# Altium footprint library PcbLib2.PcbLib: 18 footprints (part 1 of 2)
Each footprint in its own frame and in the unit in brackets; x right, y up, seen from the top. Pads: shape width x height; smd on the part's side, far side on the other; paste and mask are expansions set on the pad; w line width, h text height; cw(c..) or ccw(c..) is an arc to the next point about the centre after c.
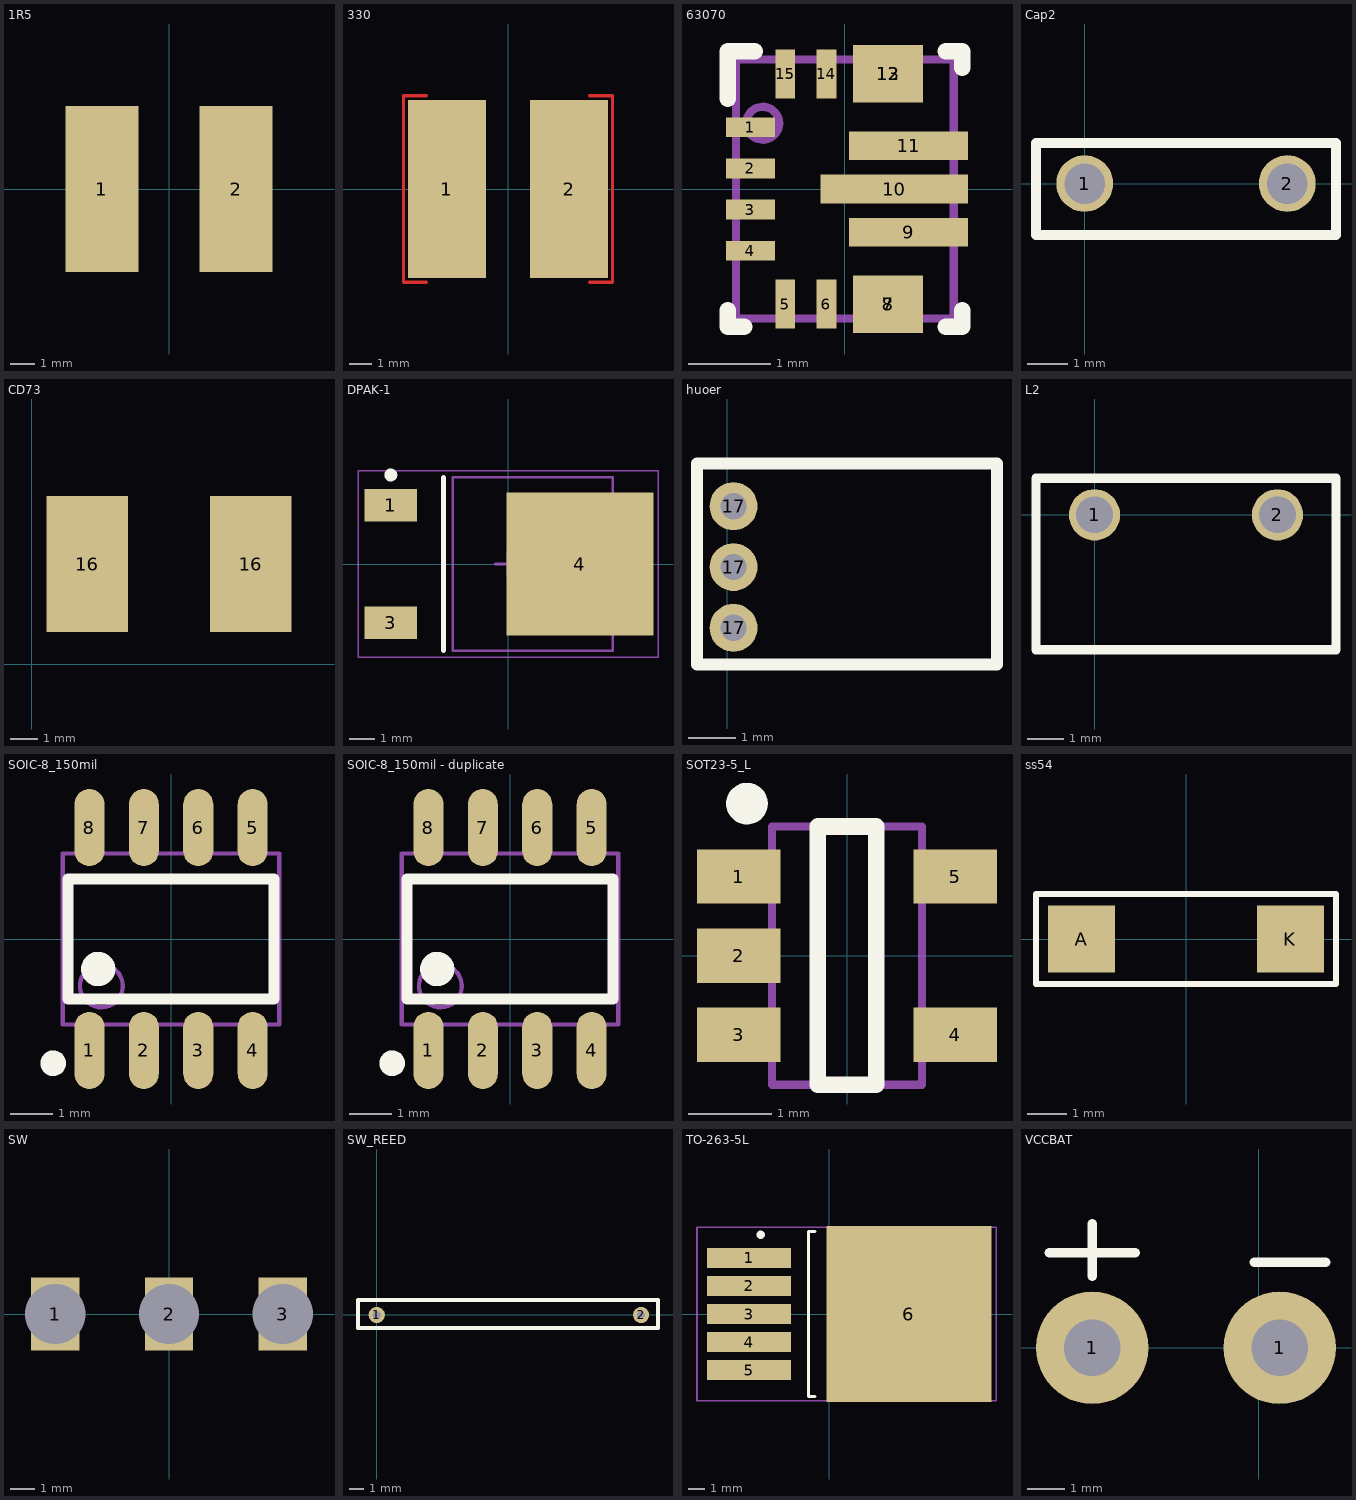
[diagram p0: the footprints below, top view; thin cyan lines are the x and y axes]

## 1R5 [mm]
height 3.5
pads (2):
  rect 3x6.8 smd: 1(-2.75,0) 2(2.75,0)

## 330 [mm]
pads (2):
  rect 3.5x8 smd: 1(-2.75,0) 2(2.75,0)
Top Layer:
  lines w0.15: -3.683,-4.191 -4.699,-4.191 -4.699,4.191 -3.683,4.191 ; 3.683,-4.191 4.699,-4.191 4.699,4.191 3.683,4.191

## 63070 [mm]
pads (15):
  rect 0.6x0.24 smd paste+0 mask+0.051: 1(-1.15,0.75) 2(-1.15,0.25) 3(-1.15,-0.25) 4(-1.15,-0.75)
  rect 0.24x0.6 smd paste+0 mask+0.051: 5(-0.725,-1.4) 6(-0.225,-1.4) 14(-0.225,1.4) 15(-0.725,1.4)
  rect 0.85x0.7 smd paste-0.35 mask-0.356: 7(0.525,-1.4) 8(0.525,-1.4) 12(0.525,1.4) 13(0.525,1.4)
  rect 1.45x0.35 smd paste-0.712 mask-0.051: 9(0.775,-0.525) 11(0.775,0.525)
  rect 1.8x0.35 smd paste-0.887 mask-0.051: 10(0.6,0)
Top Overlay:
  lines w0.2: -1.425,-1.475 -1.425,-1.675 -1.225,-1.675 ; -1.425,1.1 -1.425,1.675 -1.1,1.675 ; 1.225,-1.675 1.425,-1.675 1.425,-1.475 ; 1.225,1.675 1.425,1.675 1.425,1.475
Top Paste:
  drawing of 12 lines, arcs and shapes, not listed
Top Solder:
  drawing of 6 lines, arcs and shapes, not listed
Mechanical 13:
  circle w0.1: c-1,0.8 r0.2
  lines w0.1: -1.325,-1.575 -1.325,1.575 1.325,1.575 1.325,-1.575 -1.325,-1.575
3D body: height 0.25, standoff 0, extent 0,0 0.254,0.254

## Cap2 [mm]
pads (2):
  round 1.4 hole 1: 1(0,0) 2(5,0)
Top Overlay:
  lines w0.254: -1.2,-1.27 6.2,-1.27 6.2,1 -1.2,1 -1.2,-1.27

## CD73 [mm]
pads (2):
  rect 3x5 smd: 16(2.032,3.683) 16(8.032,3.683)

## DPAK-1 [mm]
pads (3):
  rect 2.05x1.25 smd: 1(-4.55,2.28) 3(-4.55,-2.28)
  rect 5.7x5.55 smd: 4(2.794,0)
Top Overlay:
  circle w0.25: c-4.55,3.455 r0.125
  lines w0.2: -2.5,-3.35 -2.5,3.35
Mechanical 13:
  lines w0.1: -2.15,-3.375 4.07,-3.375 4.07,3.375 -2.15,3.375 -2.15,-3.375
Mechanical 15:
  lines w0.05: -5.825,-3.625 5.825,-3.625 5.825,3.625 -5.825,3.625 -5.825,-3.625
  lines w0.1: -0.5,0 0.5,0 ; 0,-0.5 0,0.5
3D body: height 2.38, standoff 0, extent -2.15,-3.375 4.07,3.375

## huoer [mm]
pads (3):
  round 1 hole 0.55: 17(0.127,2.921) 17(0.127,4.191) 17(0.127,5.461)
Top Overlay:
  lines w0.254: -0.635,2.159 5.627,2.159 5.627,6.35 -0.635,6.35 -0.635,2.159

## L2 [mm]
pads (2):
  round 1.4 hole 1: 1(0,0) 2(5,0)
Top Overlay:
  lines w0.254: -1.6,-3.683 6.6,-3.683 6.6,1 -1.6,1 -1.6,-3.683

## SOIC-8_150mil [mm]
pads (8):
  oval 0.7x1.8 smd: 1(-1.905,-2.6) 2(-0.635,-2.6) 3(0.635,-2.6) 4(1.905,-2.6) 5(1.905,2.6) 6(0.635,2.6) 7(-0.635,2.6) 8(-1.905,2.6)
Top Overlay:
  circle w0.4: c-1.7,-0.7 r0.2
  circle w0.3: c-2.75,-2.9 r0.15
  lines w0.254: -2.4,-1.4 -2.4,1.4 2.4,1.4 2.4,-1.4 -2.4,-1.4
Mechanical 13:
  circle w0.1: c-1.625,-1.095 r0.5
  lines w0.1: -2.525,-1.995 -2.525,1.995 2.525,1.995 2.525,-1.995 -2.525,-1.995

## SOIC-8_150mil - duplicate [mm]
pads (8):
  oval 0.7x1.8 smd: 1(-1.905,-2.6) 2(-0.635,-2.6) 3(0.635,-2.6) 4(1.905,-2.6) 5(1.905,2.6) 6(0.635,2.6) 7(-0.635,2.6) 8(-1.905,2.6)
Top Overlay:
  circle w0.3: c-2.75,-2.9 r0.15
  circle w0.4: c-1.7,-0.7 r0.2
  lines w0.254: -2.4,-1.4 2.4,-1.4 2.4,1.4 -2.4,1.4 -2.4,-1.4
Mechanical 13:
  circle w0.1: c-1.625,-1.095 r0.5
  lines w0.1: -2.525,-1.995 2.525,-1.995 2.525,1.995 -2.525,1.995 -2.525,-1.995

## SOT23-5_L [mm] "SOT23, 6-Leads, Body 2.9x1.6mm, Pitch 0.95mm, Lead Span 2.7mm, IPC High Density"
height 1.45
pads (5):
  rect 1x0.65 smd: 1(-1.3,0.95) 2(-1.3,0) 3(-1.3,-0.95) 4(1.3,-0.95) 5(1.3,0.95)
Top Overlay:
  circle w0.25: c-1.2,1.825 r0.125
  lines w0.2: -0.35,-1.55 0.35,-1.55 0.35,1.55 -0.35,1.55 -0.35,-1.55
Mechanical 13:
  lines w0.1: -0.9,-1.55 -0.9,1.55 0.9,1.55 0.9,-1.55 -0.9,-1.55
3D body "SW3DPS-SOT-23-5-DEFAULT.STEP": height 1.05, standoff -0.05, extent -1.357,-1.5 1.143,1.5

## ss54 [mm]
height 3
pads (2):
  rect 1.7x1.7 smd: A(-2.65,0) K(2.65,0)
Top Overlay:
  lines w0.15: -3.81,-0.381 -3.81,1.143 3.81,1.143 3.81,-1.143 -3.81,-1.143 -3.81,0

## SW [mm]
height 18
pads (3):
  rect 2x3 hole 2.5 square: 1(-4.7,0) 2(0,0) 3(4.7,0)

## SW_REED [mm]
pads (2):
  round 1.1 hole 0.55: 1(0,0) 2(17.907,0)
Top Overlay:
  lines w0.254: -1.27,-0.889 19.05,-0.889 19.05,1.016 -1.27,1.016 -1.27,-0.886

## TO-263-5L [mm]
pads (6):
  rect 5.08x1.2 smd: 1(-4.845,3.4) 2(-4.845,1.7) 3(-4.845,0) 4(-4.845,-1.7) 5(-4.845,-3.4)
  rect 10x10.66 smd: 6(4.845,0)
Top Overlay:
  circle w0.25: c-4.138,4.801 r0.125
  lines w0.2: -0.864,-5 -1.245,-5 -1.245,5 -0.864,5
Mechanical 15:
  lines w0.1: 0.155,0 1.155,0 ; 0.655,-0.5 0.655,0.5 ; -7.995,-5.25 10.129,-5.25 10.129,5.25 -7.995,5.25 -7.995,-5.25
3D body "User Library-TO-263-5.STEP": height 4.58, standoff 0.02, extent -4.34,-5.055 9.675,5.105

## VCCBAT [mm]
pads (2):
  round 3 hole 1.5: 1(-4.445,0) 1(0.555,0)
Top Overlay:
  lines w0.254: -5.588,2.54 -3.302,2.54 ; -4.445,1.905 -4.445,3.302 ; -0.127,2.286 1.778,2.286